# EAGLE library part LTC1442 (library Octanis1_EPS)
Ultralow Power Single/Dual Comparator with Reference
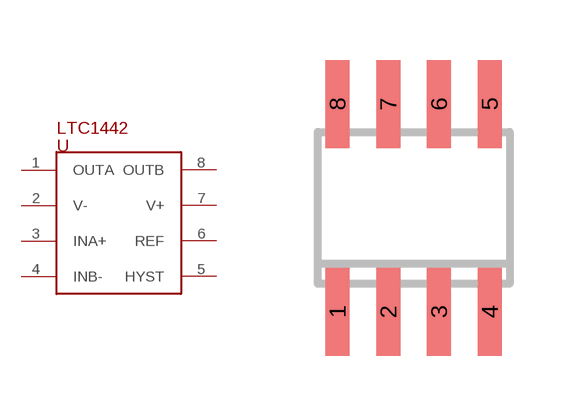
[diagram p2: symbol with the pads of SO8; footprint SO8]

Designator prefix -

## LTC1442  [SO8]
1  OUTA
2  V-
3  INA+
4  INB-
5  HYST
6  REF
7  V+
8  OUTB

## Footprint SO8 (pad centres in mm)
SMALL OUTLINE INTEGRATED CIRCUIT SOP-8L Source: http://www.diodes.com/datasheets/ds31262.pdf
smd 0.6 x 2.2: 1 -1.905,-2.6; 2 -0.635,-2.6; 3 0.635,-2.6; 4 1.905,-2.6; 5 1.905,2.6; 6 0.635,2.6; 7 -0.635,2.6; 8 -1.905,2.6